# Altium footprint library PcbLib.PcbLib: 145 footprints (part 4 of 10)
Each footprint in its own frame and in the unit in brackets; x right, y up, seen from the top. Pads: shape width x height; smd on the part's side, far side on the other; paste and mask are expansions set on the pad; w line width, h text height; cw(c..) or ccw(c..) is an arc to the next point about the centre after c.
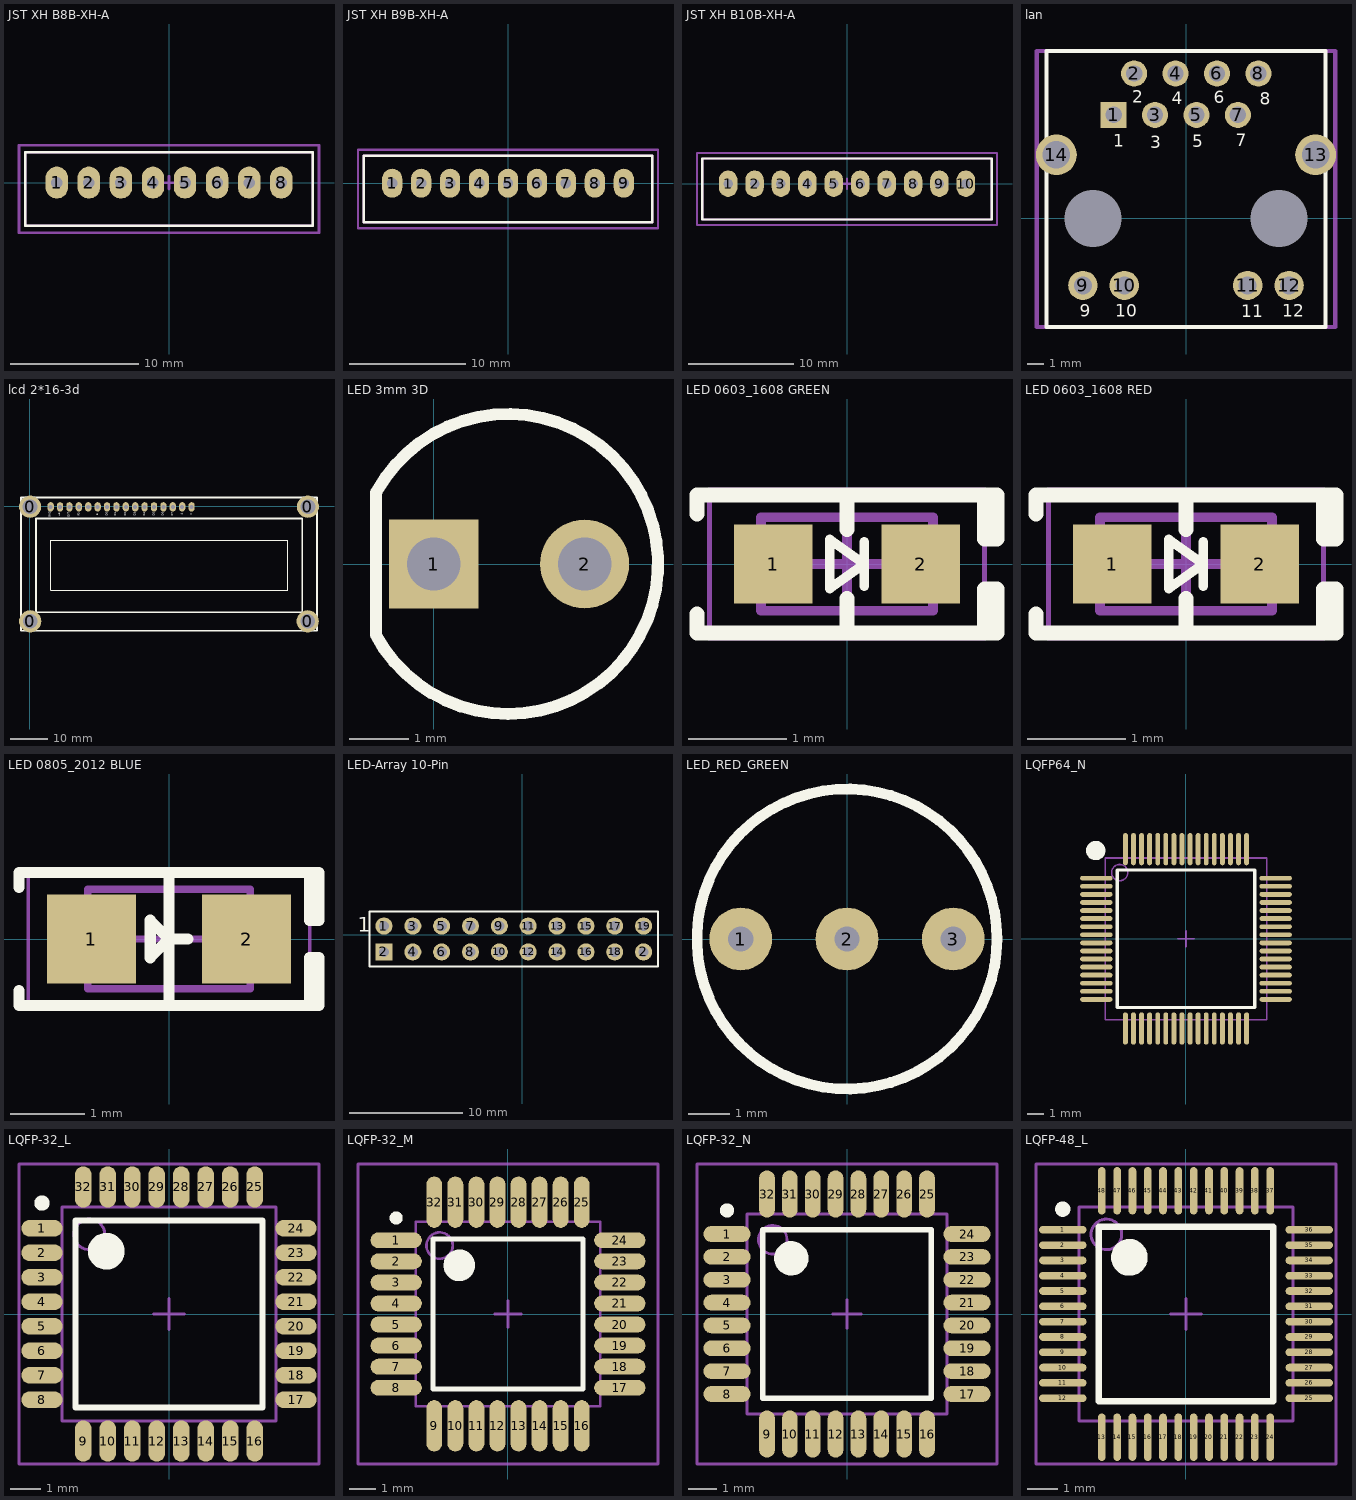
[diagram p3: the footprints below, top view; thin cyan lines are the x and y axes]

## JST XH B8B-XH-A [mm]
height 7
pads (8):
  oval 1.75x2.5 hole 0.9: 1(-8.75,0) 2(-6.25,0) 3(-3.75,0) 4(-1.25,0) 5(1.25,0) 6(3.75,0) 7(6.25,0) 8(8.75,0)
Top Overlay:
  lines w0.2: -11.2,-3.375 11.2,-3.375 11.2,2.375 -11.2,2.375 -11.2,-3.375
Mechanical 1:
  lines w0.2: -11.2,-3.375 -11.2,2.375 11.2,2.375 11.2,-3.375 -11.2,-3.375
Mechanical 15:
  lines w0.2: -0.5,0 0.5,0 ; 0,-0.5 0,0.5 ; -11.7,-3.9 11.7,-3.9 11.7,2.9 -11.7,2.9 -11.7,-3.9
3D body "JST B8B-XH-A.STEP": height 7, standoff -3.4, extent -11.2,-3.375 11.2,2.375

## JST XH B9B-XH-A [mm]
height 7
pads (9):
  oval 1.75x2.5 hole 0.9: 1(-10,0) 2(-7.5,0) 3(-5,0) 4(-2.5,0) 5(0,0) 6(2.5,0) 7(5,0) 8(7.5,0) 9(10,0)
Top Overlay:
  lines w0.2: -12.45,-3.375 -12.45,2.375 12.45,2.375 12.45,-3.375 -12.45,-3.375
Mechanical 1:
  lines w0.2: -12.45,-3.375 12.45,-3.375 12.45,2.375 -12.45,2.375 -12.45,-3.375
Mechanical 15:
  lines w0.2: -0.5,0 0.5,0 ; 0,-0.5 0,0.5 ; -12.95,-3.9 -12.95,2.9 12.95,2.9 12.95,-3.9 -12.95,-3.9
3D body "JST B9B-XH-A.STEP": height 7, standoff -3.4, extent -12.45,-3.375 12.45,2.375

## JST XH B10B-XH-A [mm]
height 7
pads (10):
  oval 1.75x2.5 hole 0.9: 1(-11.25,0) 2(-8.75,0) 3(-6.25,0) 4(-3.75,0) 5(-1.25,0) 6(1.25,0) 7(3.75,0) 8(6.25,0) 9(8.75,0) 10(11.25,0)
Top Overlay:
  lines w0.2: -13.7,-3.375 13.7,-3.375 13.7,2.375 -13.7,2.375 -13.7,-3.375
Mechanical 1:
  lines w0.2: -13.7,-3.375 -13.7,2.375 13.7,2.375 13.7,-3.375 -13.7,-3.375
Mechanical 15:
  lines w0.2: -0.5,0 0.5,0 ; 0,-0.5 0,0.5 ; -14.2,-3.9 14.2,-3.9 14.2,2.9 -14.2,2.9 -14.2,-3.9
3D body "JST B10B-XH-A.STEP": height 7, standoff -3.4, extent -13.7,-3.375 13.7,2.375

## lan [mm] "RJ45 LAN Transformer, 10/100 Base-T"
height 17.5
pads (16):
  rect 1.6x1.6 hole 1: 1(-4.44,6.35)
  round 1.6 hole 1: 2(-3.18,8.89) 3(-1.9,6.35) 4(-0.64,8.89) 5(0.64,6.35) 6(1.9,8.89) 7(3.18,6.35) 8(4.44,8.89)
  round 1.8 hole 1.1: 9(-6.325,-4.11) 10(-3.785,-4.11) 11(3.785,-4.11) 12(6.325,-4.11)
  round 2.5 hole 1.7: 13(7.95,3.9) 14(-7.95,3.9)
  round 0 hole 3.5 unplated: ""(-5.715,0) ""(5.715,0)
Top Overlay:
  lines w0.254: -8.55,-6.66 -8.55,10.27 8.55,10.27 8.55,-6.66 -8.55,-6.66
  text "12" at 5.893,-6.02 h0.76
  text "11" at 3.378,-6.071 h0.76
  text "10" at -4.343,-6.045 h0.76
  text "9" at -6.502,-6.02 h0.76
  text "8" at 4.521,6.985 h0.76
  text "7" at 3.048,4.42 h0.76
  text "6" at 1.702,7.061 h0.76
  text "5" at 0.381,4.369 h0.76
  text "4" at -0.864,7.01 h0.76
  text "3" at -2.184,4.318 h0.76
  text "2" at -3.302,7.087 h0.76
  text "1" at -4.47,4.394 h0.76
Mechanical 15:
  lines w0.254: -9.15,-6.66 9.15,-6.66 9.15,10.27 -9.15,10.27 -9.15,-6.66
3D body "74990101210.stp": height 17.5, standoff -3.5, extent -8.5,-6.73 8.5,10.37

## lcd 2*16-3d [mm]
height 1.2
pads (20):
  round 6 hole 4: 0(0.138,-0.138) 0(0.168,-31.115) 0(75.168,-31.113) 0(75.23,-0.142)
  oval 1.7x2.5 hole 1.1: 1(5.69,-0.178) 2(8.23,-0.178) 3(10.77,-0.178) 4(13.31,-0.178) 5(15.85,-0.178) 6(18.39,-0.178) 7(20.93,-0.178) 8(23.47,-0.178) 9(26.01,-0.178) 10(28.55,-0.178) 11(31.09,-0.178) 12(33.63,-0.178) 13(36.17,-0.178) 14(38.71,-0.178) 15(41.25,-0.178) 16(43.79,-0.178)
Top Overlay:
  lines w0.203: 5.715,-22.758 5.715,-9.271 69.723,-9.271 69.723,-22.758 5.715,-22.758
  lines w0.508: -2.311,-33.68 -2.311,2.311 77.699,2.311 77.699,-33.68 -2.311,-33.68 ; 1.727,-28.677 1.727,-3.378 73.711,-3.378 73.711,-28.677 1.727,-28.677
  text "GND" at 5.825,-2.975 h0.5
  text "+5" at 8.4,-2.775 h0.5
  text "CNT" at 11.05,-2.925 h0.5
  text "RS" at 13.65,-2.65 h0.5
  text "E" at 18.7,-2.45 h0.5
  text "D0" at 21.2,-2.575 h0.5
  text "D1" at 23.55,-2.55 h0.5
  text "D2" at 26.25,-2.575 h0.5
  text "D3" at 28.85,-2.575 h0.5
  text "D4" at 31.35,-2.575 h0.5
  text "D5" at 33.9,-2.6 h0.5
  text "D6" at 36.425,-2.575 h0.5
  text "D7" at 38.975,-2.575 h0.5
  text "A" at 41.475,-2.35 h0.5
  text "K" at 44.05,-2.275 h0.5
3D body "User Library-LCD 16x2 WC1602A0-SFYLNC06.STEP": height 17.4, standoff 4.5, extent -2.323,-33.61 77.927,2.39

## LED 3mm 3D [mm] "Connector; Header; 2 Position"
height 5.85
pads (2):
  rect 1.5x1.5 hole 0.9: 1(0,0)
  round 1.5 hole 0.9: 2(2.54,0)
Top Overlay:
  lines w0.2: -0.975,-1.148 -0.975,1.206
  lines w0.203: -0.973,-1.199 ccw(c1.25,0) -0.955,1.231
3D body "everlight-3MM-LED-RED.STEP": height 14.64, standoff 2.07, extent -0.226,-1.925 3.2,1.875

## LED 0603_1608 GREEN [mm] "Chip Diode, 2-Leads, Body 1.60x0.80mm, IPC Medium Density"
height 0.45
pads (2):
  rect 0.8x0.8 smd: 1(-0.75,0) 2(0.75,0)
Top Overlay:
  lines w0.1: 0.175,-0.225 0.175,0 ; 0.175,0.225 0.175,0 ; 0.175,0 -0.175,0.25 -0.175,0 -0.175,-0.25 0.175,0
  lines w0.15: -1.524,-0.508 -1.524,-0.7 1.5,-0.7 ; -1.524,0.508 -1.524,0.7 1.5,0.7 ; 0,-0.7 0,-0.35 ; 0,0.35 0,0.7 ; 1.397,-0.7 1.397,-0.254 1.524,-0.254 1.524,-0.7 1.397,-0.7 ; 1.397,0.254 1.397,0.7 1.524,0.7 1.524,0.254 1.397,0.254
Mechanical 13:
  lines w0.1: -0.875,-0.475 0.875,-0.475 0.875,0.475 -0.875,0.475 -0.875,-0.475
Mechanical 15:
  lines w0.05: -1.397,-0.75 1.397,-0.75 1.397,0.75 -1.397,0.75 -1.397,-0.75
  lines w0.1: -0.475,0 0.475,0 ; 0,-0.475 0,0.475
3D body "LED 0603 Base GREEN.STEP": height 0.28, standoff 0, extent -0.8,-0.4 0.8,0.4
3D body "LED 0603 Lens GREEN.STEP": height 0.53, standoff 0.18, extent -0.55,-0.4 0.55,0.4

## LED 0603_1608 RED [mm] "Chip Diode, 2-Leads, Body 1.60x0.80mm, IPC Medium Density"
height 0.45
pads (2):
  rect 0.8x0.8 smd: 1(-0.75,0) 2(0.75,0)
Top Overlay:
  lines w0.1: 0.175,-0.225 0.175,0 ; 0.175,0.225 0.175,0 ; 0.175,0 -0.175,-0.25 -0.175,0 -0.175,0.25 0.175,0
  lines w0.15: -1.524,-0.508 -1.524,-0.7 1.5,-0.7 ; -1.524,0.508 -1.524,0.7 1.5,0.7 ; 0,-0.7 0,-0.35 ; 0,0.35 0,0.7 ; 1.397,-0.7 1.397,-0.254 1.524,-0.254 1.524,-0.7 1.397,-0.7 ; 1.397,0.254 1.397,0.7 1.524,0.7 1.524,0.254 1.397,0.254
Mechanical 13:
  lines w0.1: -0.875,-0.475 0.875,-0.475 0.875,0.475 -0.875,0.475 -0.875,-0.475
Mechanical 15:
  lines w0.05: -1.397,-0.75 1.397,-0.75 1.397,0.75 -1.397,0.75 -1.397,-0.75
  lines w0.1: -0.475,0 0.475,0 ; 0,-0.475 0,0.475
3D body "LED 0603 Base RED.STEP": height 0.28, standoff 0, extent -0.8,-0.4 0.8,0.4
3D body "LED 0603 Lens RED.STEP": height 0.53, standoff 0.18, extent -0.55,-0.4 0.55,0.4

## LED 0805_2012 BLUE [mm] "Chip Diode, 2-Leads, Body 2.00x1.25mm, IPC Medium Density"
height 0.7
pads (2):
  rect 1.2x1.2 smd: 1(-1.05,0) 2(1.05,0)
Top Overlay:
  lines w0.15: -2.032,-0.7 -2.032,-0.9 1.905,-0.9 ; -2.032,0.7 -2.032,0.9 1.905,0.9 ; 0,-0.9 0,0.9 ; 0.254,0 0,0 ; 0,0 -0.254,0.254 -0.254,-0.254 0,0 ; 1.905,-0.9 2.032,-0.9 2.032,-0.254 1.905,-0.254 1.905,-0.9 ; 1.905,0.9 2.032,0.9 2.032,0.254 1.905,0.254 1.905,0.9
Mechanical 13:
  lines w0.1: -1.1,-0.675 -1.1,0.675 1.1,0.675 1.1,-0.675 -1.1,-0.675
Mechanical 15:
  lines w0.05: -1.905,-0.95 -1.905,0.95 1.905,0.95 1.905,-0.95 -1.905,-0.95
  lines w0.1: -0.5,0 0.5,0 ; 0,-0.5 0,0.5
3D body "LED 0805 Lens BLUE.STEP": height 0.9, standoff 0.3, extent -0.65,-0.625 0.65,0.625
3D body "LED 0805 Base BLUE.STEP": height 0.4, standoff 0, extent -1,-0.625 1,0.625

## LED-Array 10-Pin [mm]
pads (20):
  round 1.5 hole 0.9: 1(-12.192,0.762) 2(10.668,-1.524) 3(-9.652,0.762) 4(-9.652,-1.524) 5(-7.112,0.762) 6(-7.112,-1.524) 7(-4.572,0.762) 8(-4.572,-1.524) 9(-2.032,0.762) 10(-2.032,-1.524) 11(0.508,0.762) 12(0.508,-1.524) 13(3.048,0.762) 14(3.048,-1.524) 15(5.588,0.762) 16(5.588,-1.524) 17(8.128,0.762) 18(8.128,-1.524) 19(10.668,0.762)
  rect 1.5x1.5 hole 0.9: 2(-12.192,-1.524)
Top Overlay:
  lines w0.2: -13.462,-2.794 -11.557,-2.794 11.938,-2.794 11.938,2.032 -13.462,2.032 -13.462,-2.794
  text "1" at -14.478,0.254 h1.27

## LED_RED_GREEN [mm]
pads (3):
  round 1.5 hole 0.6: 1(-2.54,0) 2(0,0) 3(2.54,0)
Top Overlay:
  circle w0.254: c0,0 r3.585
3D body: height 1.27, standoff 0, extent -3,-3.063 3,2.936

## LQFP64_N [mm]
pads (64):
  oval 2x0.3 smd: 1(-5.55,3.75) 2(-5.55,3.25) 3(-5.55,2.75) 4(-5.55,2.25) 5(-5.55,1.75) 6(-5.55,1.25) 7(-5.55,0.75) 8(-5.55,0.25) 9(-5.55,-0.25) 10(-5.55,-0.75) 11(-5.55,-1.25) 12(-5.55,-1.75) 13(-5.55,-2.25) 14(-5.55,-2.75) 15(-5.55,-3.25) 16(-5.55,-3.75) 33(5.55,-3.75) 34(5.55,-3.25) 35(5.55,-2.75) 36(5.55,-2.25) 37(5.55,-1.75) 38(5.55,-1.25) 39(5.55,-0.75) 40(5.55,-0.25) 41(5.55,0.25) 42(5.55,0.75) 43(5.55,1.25) 44(5.55,1.75) 45(5.55,2.25) 46(5.55,2.75) 47(5.55,3.25) 48(5.55,3.75)
  oval 0.3x2 smd: 17(-3.75,-5.55) 18(-3.25,-5.55) 19(-2.75,-5.55) 20(-2.25,-5.55) 21(-1.75,-5.55) 22(-1.25,-5.55) 23(-0.75,-5.55) 24(-0.25,-5.55) 25(0.25,-5.55) 26(0.75,-5.55) 27(1.25,-5.55) 28(1.75,-5.55) 29(2.25,-5.55) 30(2.75,-5.55) 31(3.25,-5.55) 32(3.75,-5.55) 49(3.75,5.55) 50(3.25,5.55) 51(2.75,5.55) 52(2.25,5.55) 53(1.75,5.55) 54(1.25,5.55) 55(0.75,5.55) 56(0.25,5.55) 57(-0.25,5.55) 58(-0.75,5.55) 59(-1.25,5.55) 60(-1.75,5.55) 61(-2.25,5.55) 62(-2.75,5.55) 63(-3.25,5.55) 64(-3.75,5.55)
Top Overlay:
  circle w0.6: c-5.588,5.461 r0.3
  lines w0.2: -4.25,-4.25 -4.25,4.25 4.25,4.25 4.25,-4.25 -4.25,-4.25
Top Solder:
  rectangle: -6.375,-3.759 -4.699,3.759
  region: 3.708,-6.375 3.708,-4.699 -3.81,-4.699 -3.81,-6.375
  region: 6.375,3.759 4.699,3.759 4.699,-3.759 6.375,-3.759
  region: -3.734,6.35 -3.734,4.674 3.785,4.674 3.785,6.35
Mechanical 13:
  circle w0.1: c-4.1,4.1 r0.5
  lines w0.1: -5,-5 -5,5 5,5 5,-5 -5,-5
Mechanical 15:
  lines w0.1: -0.5,0 0.5,0 ; 0,-0.5 0,0.5
3D body: height 1.6, standoff 0, extent -5,-5 5,5

## LQFP-32_L [mm] "Thin QFP, 32-Leads, Body 7x7mm, Pitch 0.8mm, IPC High Density"
height 1.6
pads (32):
  oval 1.35x0.55 smd: 1(-4.15,2.8) 2(-4.15,2) 3(-4.15,1.2) 4(-4.15,0.4) 5(-4.15,-0.4) 6(-4.15,-1.2) 7(-4.15,-2) 8(-4.15,-2.8) 17(4.15,-2.8) 18(4.15,-2) 19(4.15,-1.2) 20(4.15,-0.4) 21(4.15,0.4) 22(4.15,1.2) 23(4.15,2) 24(4.15,2.8)
  oval 0.55x1.35 smd: 9(-2.8,-4.15) 10(-2,-4.15) 11(-1.2,-4.15) 12(-0.4,-4.15) 13(0.4,-4.15) 14(1.2,-4.15) 15(2,-4.15) 16(2.8,-4.15) 25(2.8,4.15) 26(2,4.15) 27(1.2,4.15) 28(0.4,4.15) 29(-0.4,4.15) 30(-1.2,4.15) 31(-2,4.15) 32(-2.8,4.15)
Top Overlay:
  circle w0.6: c-2.05,2.05 r0.3
  circle w0.25: c-4.15,3.625 r0.125
  lines w0.2: -3.05,-3.05 3.05,-3.05 3.05,3.05 -3.05,3.05 -3.05,-3.05
Mechanical 13:
  circle w0.1: c-2.6,2.6 r0.5
  lines w0.1: -3.5,-3.5 3.5,-3.5 3.5,3.5 -3.5,3.5 -3.5,-3.5
Mechanical 15:
  lines w0.1: -0.5,0 0.5,0 ; 0,-0.5 0,0.5 ; -4.9,-4.9 4.9,-4.9 4.9,4.9 -4.9,4.9 -4.9,-4.9
3D body: height 1.6, standoff 0, extent -3.5,-3.5 3.5,3.5

## LQFP-32_M [mm] "Thin QFP, 32-Leads, Body 7x7mm, Pitch 0.8mm, IPC Low Density"
height 1.6
pads (32):
  oval 1.95x0.6 smd: 1(-4.25,2.8) 2(-4.25,2) 3(-4.25,1.2) 4(-4.25,0.4) 5(-4.25,-0.4) 6(-4.25,-1.2) 7(-4.25,-2) 8(-4.25,-2.8) 17(4.25,-2.8) 18(4.25,-2) 19(4.25,-1.2) 20(4.25,-0.4) 21(4.25,0.4) 22(4.25,1.2) 23(4.25,2) 24(4.25,2.8)
  oval 0.6x1.95 smd: 9(-2.8,-4.25) 10(-2,-4.25) 11(-1.2,-4.25) 12(-0.4,-4.25) 13(0.4,-4.25) 14(1.2,-4.25) 15(2,-4.25) 16(2.8,-4.25) 25(2.8,4.25) 26(2,4.25) 27(1.2,4.25) 28(0.4,4.25) 29(-0.4,4.25) 30(-1.2,4.25) 31(-2,4.25) 32(-2.8,4.25)
Top Overlay:
  circle w0.25: c-4.25,3.65 r0.125
  circle w0.6: c-1.85,1.85 r0.3
  lines w0.2: -2.85,-2.85 -2.85,2.85 2.85,2.85 2.85,-2.85 -2.85,-2.85
Mechanical 13:
  circle w0.1: c-2.6,2.6 r0.5
  lines w0.1: -3.5,-3.5 -3.5,3.5 3.5,3.5 3.5,-3.5 -3.5,-3.5
Mechanical 15:
  lines w0.1: -0.5,0 0.5,0 ; 0,-0.5 0,0.5 ; -5.7,-5.7 -5.7,5.7 5.7,5.7 5.7,-5.7 -5.7,-5.7
3D body: height 1.6, standoff 0, extent -3.5,-3.5 3.5,3.5

## LQFP-32_N [mm] "Thin QFP, 32-Leads, Body 7x7mm, Pitch 0.8mm, IPC Medium Density"
height 1.6
pads (32):
  oval 1.65x0.55 smd: 1(-4.2,2.8) 2(-4.2,2) 3(-4.2,1.2) 4(-4.2,0.4) 5(-4.2,-0.4) 6(-4.2,-1.2) 7(-4.2,-2) 8(-4.2,-2.8) 17(4.2,-2.8) 18(4.2,-2) 19(4.2,-1.2) 20(4.2,-0.4) 21(4.2,0.4) 22(4.2,1.2) 23(4.2,2) 24(4.2,2.8)
  oval 0.55x1.65 smd: 9(-2.8,-4.2) 10(-2,-4.2) 11(-1.2,-4.2) 12(-0.4,-4.2) 13(0.4,-4.2) 14(1.2,-4.2) 15(2,-4.2) 16(2.8,-4.2) 25(2.8,4.2) 26(2,4.2) 27(1.2,4.2) 28(0.4,4.2) 29(-0.4,4.2) 30(-1.2,4.2) 31(-2,4.2) 32(-2.8,4.2)
Top Overlay:
  circle w0.6: c-1.95,1.95 r0.3
  circle w0.25: c-4.2,3.625 r0.125
  lines w0.2: -2.95,-2.95 2.95,-2.95 2.95,2.95 -2.95,2.95 -2.95,-2.95
Mechanical 13:
  circle w0.1: c-2.6,2.6 r0.5
  lines w0.1: -3.5,-3.5 3.5,-3.5 3.5,3.5 -3.5,3.5 -3.5,-3.5
Mechanical 15:
  lines w0.1: -0.5,0 0.5,0 ; 0,-0.5 0,0.5 ; -5.25,-5.25 5.25,-5.25 5.25,5.25 -5.25,5.25 -5.25,-5.25
3D body: height 1.6, standoff 0, extent -3.5,-3.5 3.5,3.5

## LQFP-48_L [mm] "Thin QFP, 48-Leads, Body 7x7mm, Pitch 0.5mm, IPC High Density"
height 1.6
pads (48):
  oval 1.55x0.25 smd: 1(-4.025,2.75) 2(-4.025,2.25) 3(-4.025,1.75) 4(-4.025,1.25) 5(-4.025,0.75) 6(-4.025,0.25) 7(-4.025,-0.25) 8(-4.025,-0.75) 9(-4.025,-1.25) 10(-4.025,-1.75) 11(-4.025,-2.25) 12(-4.025,-2.75) 25(4.025,-2.75) 26(4.025,-2.25) 27(4.025,-1.75) 28(4.025,-1.25) 29(4.025,-0.75) 30(4.025,-0.25) 31(4.025,0.25) 32(4.025,0.75) 33(4.025,1.25) 34(4.025,1.75) 35(4.025,2.25) 36(4.025,2.75)
  oval 0.25x1.55 smd: 13(-2.75,-4.025) 14(-2.25,-4.025) 15(-1.75,-4.025) 16(-1.25,-4.025) 17(-0.75,-4.025) 18(-0.25,-4.025) 19(0.25,-4.025) 20(0.75,-4.025) 21(1.25,-4.025) 22(1.75,-4.025) 23(2.25,-4.025) 24(2.75,-4.025) 37(2.75,4.025) 38(2.25,4.025) 39(1.75,4.025) 40(1.25,4.025) 41(0.75,4.025) 42(0.25,4.025) 43(-0.25,4.025) 44(-0.75,4.025) 45(-1.25,4.025) 46(-1.75,4.025) 47(-2.25,4.025) 48(-2.75,4.025)
Top Overlay:
  circle w0.25: c-4.025,3.425 r0.125
  circle w0.6: c-1.85,1.85 r0.3
  lines w0.2: -2.85,-2.85 -2.85,2.85 2.85,2.85 2.85,-2.85 -2.85,-2.85
Mechanical 13:
  circle w0.1: c-2.6,2.6 r0.5
  lines w0.1: -3.5,-3.5 -3.5,3.5 3.5,3.5 3.5,-3.5 -3.5,-3.5
Mechanical 15:
  lines w0.1: -0.5,0 0.5,0 ; 0,-0.5 0,0.5 ; -4.9,-4.9 -4.9,4.9 4.9,4.9 4.9,-4.9 -4.9,-4.9
3D body: height 1.6, standoff 0, extent -3.5,-3.5 3.5,3.5